# EAGLE library part MAX14850 (library lieven)
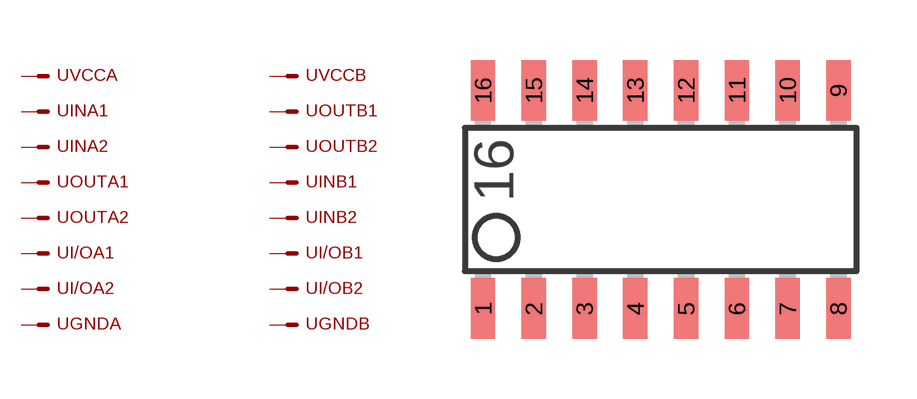
[diagram p16: symbol with the pads of SO-16; footprint SO-16]

Designator prefix -; gates VCCA=M INA1=M INA2=M OUTA1=M OUTA2=M I/OA1=M I/OA2=M GNDA=M VCCB=M OUTB1=M OUTB2=M INB1=M INB2=M I/OB1=M I/OB2=M GNDB=M

## MAX14850  [SO-16]
1  VCCA:S  pas
2  INA1:S  pas
3  INA2:S  pas
4  OUTA1:S  pas
5  OUTA2:S  pas
6  I/OA1:S  pas
7  I/OA2:S  pas
8  GNDA:S  pas
9  GNDB:S  pas
10  I/OB2:S  pas
11  I/OB1:S  pas
12  INB2:S  pas
13  INB1:S  pas
14  OUTB2:S  pas
15  OUTB1:S  pas
16  VCCB:S  pas

## Footprint SO-16 (pad centres in mm)
Small Outline Integrated Circuit
smd 0.61 x 1.524: 1 -4.445,-2.794; 2 -3.175,-2.794; 3 -1.905,-2.794; 4 -0.635,-2.794; 5 0.635,-2.794; 6 1.905,-2.794; 7 3.175,-2.794; 8 4.445,-2.794; 9 4.445,2.667; 10 3.175,2.667; 11 1.905,2.667; 12 0.635,2.667; 13 -0.635,2.667; 14 -1.905,2.667; 15 -3.175,2.667; 16 -4.445,2.667